# Altium footprint library CornellBajaLibrary.PcbLib: 100 footprints (part 7 of 7)
Each footprint in its own frame and in the unit in brackets; x right, y up, seen from the top. Pads: shape width x height; smd on the part's side, far side on the other; paste and mask are expansions set on the pad; w line width, h text height; cw(c..) or ccw(c..) is an arc to the next point about the centre after c.
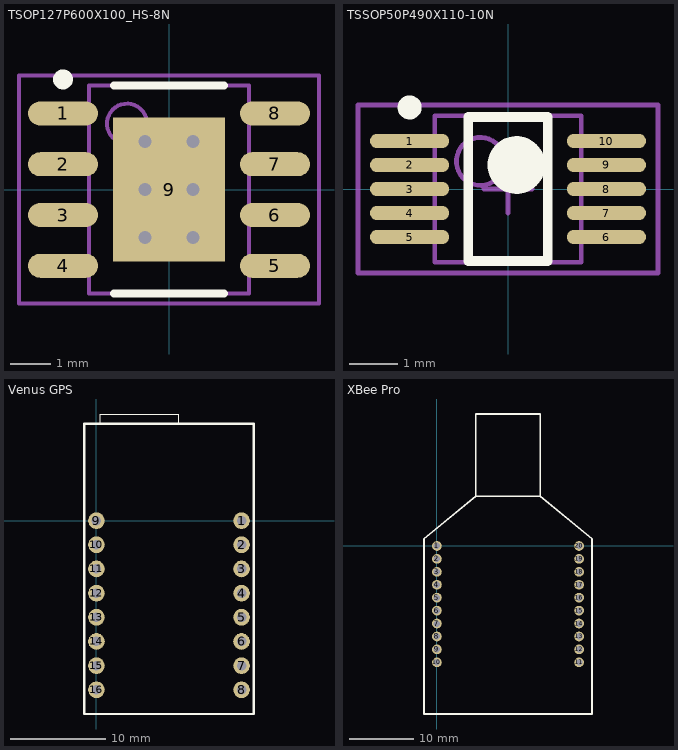
[diagram p6: the footprints below, top view; thin cyan lines are the x and y axes]

## TSOP127P600X100_HS-8N [mm] "TSOP, 8-Leads, Body 5.2x4.0mm (max), Pitch 1.27mm, IPC Medium Density"
height 1
pads (9):
  oval 1.75x0.6 smd: 1(-2.65,1.905) 2(-2.65,0.635) 3(-2.65,-0.635) 4(-2.65,-1.905) 5(2.65,-1.905) 6(2.65,-0.635) 7(2.65,0.635) 8(2.65,1.905)
  rect 2.8x3.6 smd: 9(0,0)
via -0.6,1.2 diameter 0.66 hole 0.33
via 0.6,1.2 diameter 0.66 hole 0.33
via -0.6,0 diameter 0.66 hole 0.33
via 0.6,0 diameter 0.66 hole 0.33
via -0.6,-1.2 diameter 0.66 hole 0.33
via 0.6,-1.2 diameter 0.66 hole 0.33
Top Overlay:
  circle w0.25: c-2.65,2.755 r0.125
  lines w0.2: -1.375,-2.6 1.375,-2.6 ; -1.375,2.6 1.375,2.6
Mechanical 13:
  circle w0.1: c-1.05,1.65 r0.5
  lines w0.1: -2,-2.6 -2,2.6 2,2.6 2,-2.6 -2,-2.6
Mechanical 15:
  lines w0.1: -0.5,0 0.5,0 ; 0,-0.5 0,0.5 ; -3.75,-2.85 -3.75,2.85 3.75,2.85 3.75,-2.85 -3.75,-2.85
3D body: height 1, standoff 0.08, extent -2,-2.6 2,2.6

## TSSOP50P490X110-10N [mm] "TSSOP, 10-Leads, Body 3.0x3.0mm (max), Pitch 0.50mm, IPC Medium Density"
height 1.1
pads (10):
  oval 1.65x0.3 smd: 1(-2.05,1) 2(-2.05,0.5) 3(-2.05,0) 4(-2.05,-0.5) 5(-2.05,-1) 6(2.05,-1) 7(2.05,-0.5) 8(2.05,0) 9(2.05,0.5) 10(2.05,1)
Top Overlay:
  circle w0.6: c0.175,0.5 r0.3
  circle w0.25: c-2.05,1.7 r0.125
  lines w0.2: -0.825,-1.5 0.825,-1.5 0.825,1.5 -0.825,1.5 -0.825,-1.5
Mechanical 13:
  circle w0.1: c-0.575,0.575 r0.5
  lines w0.1: -1.525,-1.525 1.525,-1.525 1.525,1.525 -1.525,1.525 -1.525,-1.525
Mechanical 15:
  lines w0.1: -0.5,0 0.5,0 ; 0,-0.5 0,0.5 ; -3.125,-1.75 3.125,-1.75 3.125,1.75 -3.125,1.75 -3.125,-1.75
3D body: height 1.1, standoff 0.05, extent -1.525,-1.525 1.525,1.525

## Venus GPS [mm]
pads (16):
  round 1.75 hole 1: 1(15.24,0) 2(15.24,-2.54) 3(15.24,-5.08) 4(15.24,-7.62) 5(15.24,-10.16) 6(15.24,-12.7) 7(15.24,-15.24) 8(15.24,-17.78) 9(0,0) 10(0,-2.54) 11(0,-5.08) 12(0,-7.62) 13(0,-10.16) 14(0,-12.7) 15(0,-15.24) 16(0,-17.78)
Top Overlay:
  lines w0.127: 0.4,10.16 0.4,11.2 8.655,11.2 8.655,10.16
  lines w0.25: -1.27,-20.32 16.51,-20.32 16.51,10.16 -1.27,10.16 -1.27,0 -1.27,-20.32
3D body: height 11.1, standoff 3.1, extent -1.45,-20.32 16.85,20.08

## XBee Pro [mm]
pads (20):
  round 1.5 hole 1: 1(0,0) 2(0,-2) 3(0,-4) 4(0,-6) 5(0,-8) 6(0,-10) 7(0,-12) 8(0,-14) 9(0,-16) 10(0,-18) 11(22,-18) 12(22,-16) 13(22,-14) 14(22,-12) 15(22,-10) 16(22,-8) 17(22,-6) 18(22,-4) 19(22,-2) 20(22,0)
Top Overlay:
  lines w0.25: -2,1.143 -2,-26 24,-26 24,1.143 ; -2,0 -2,0 ; -2,0 -2,0 ; 6,7.722 6,20.422 16,20.422 16,7.722 6,7.722
  lines w0.254: -2,1.143 6,7.722 ; 16,7.722 24,1.143
3D body: height 10, standoff 0.5, extent -2,-26 24,20.422